# EAGLE library part PINHD-1X8 (library obd_special)
PIN HEADER
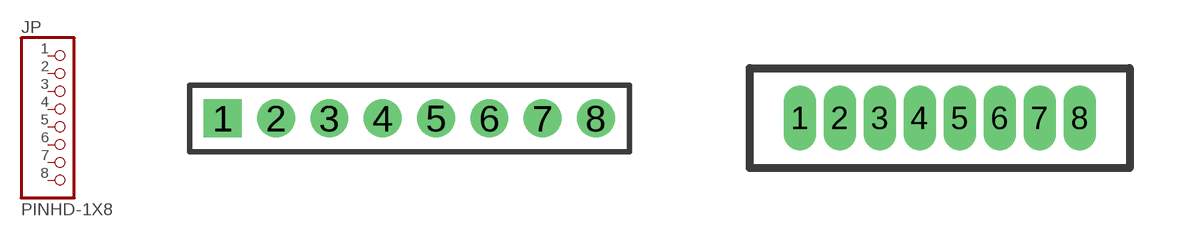
[diagram p2: symbol with the pads of 1X08M; footprints 1X08M, 1X08M-1MM]

Designator prefix JP

## PINHD-1X8_2.00  [1X08M]
1  1  pas
2  2  pas
3  3  pas
4  4  pas
5  5  pas
6  6  pas
7  7  pas
8  8  pas

## PINHD-1X8_1.00  [1X08M-1MM]
Pads as for 1X08M

## Footprint 1X08M (pad centres in mm)
PIN HEADER - 2
drill 0.914 square: 1 -7,0
drill 0.914: 2 -5,0; 3 -3,0; 4 -1,0; 5 1,0; 6 3,0; 7 5,0; 8 7,0

## Footprint 1X08M-1MM (pad centres in mm)
PIN HEADER - 1
drill 0.305 long: 1 -3.5,0; 2 -2.5,0; 3 -1.5,0; 4 -0.5,0; 5 0.5,0; 6 1.5,0; 7 2.5,0; 8 3.5,0